# EAGLE library part TPS62173 (library RGB LED project)
0.5A step-down converter
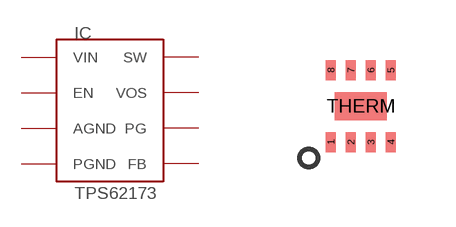
[diagram p1: symbol with the pads of WSON-8; footprint WSON-8]

Designator prefix IC

## TPS62173  [WSON-8]
1  PGND
2  VIN
3  EN
4  AGND
5  FB
6  VOS
7  SW
8  PG
THERM  AGND

## Footprint WSON-8 (pad centres in mm)
smd 0.25 x 0.5: 1 -0.75,-0.9; 2 -0.25,-0.9; 3 0.25,-0.9; 4 0.75,-0.9; 5 0.75,0.9; 6 0.25,0.9; 7 -0.25,0.9; 8 -0.75,0.9
smd 1.3 x 0.7: THERM 0,0